# Altium integrated library Other Components.IntLib: 25 symbols
Pins are listed as number, name and electrical type; pins without a type are passive.

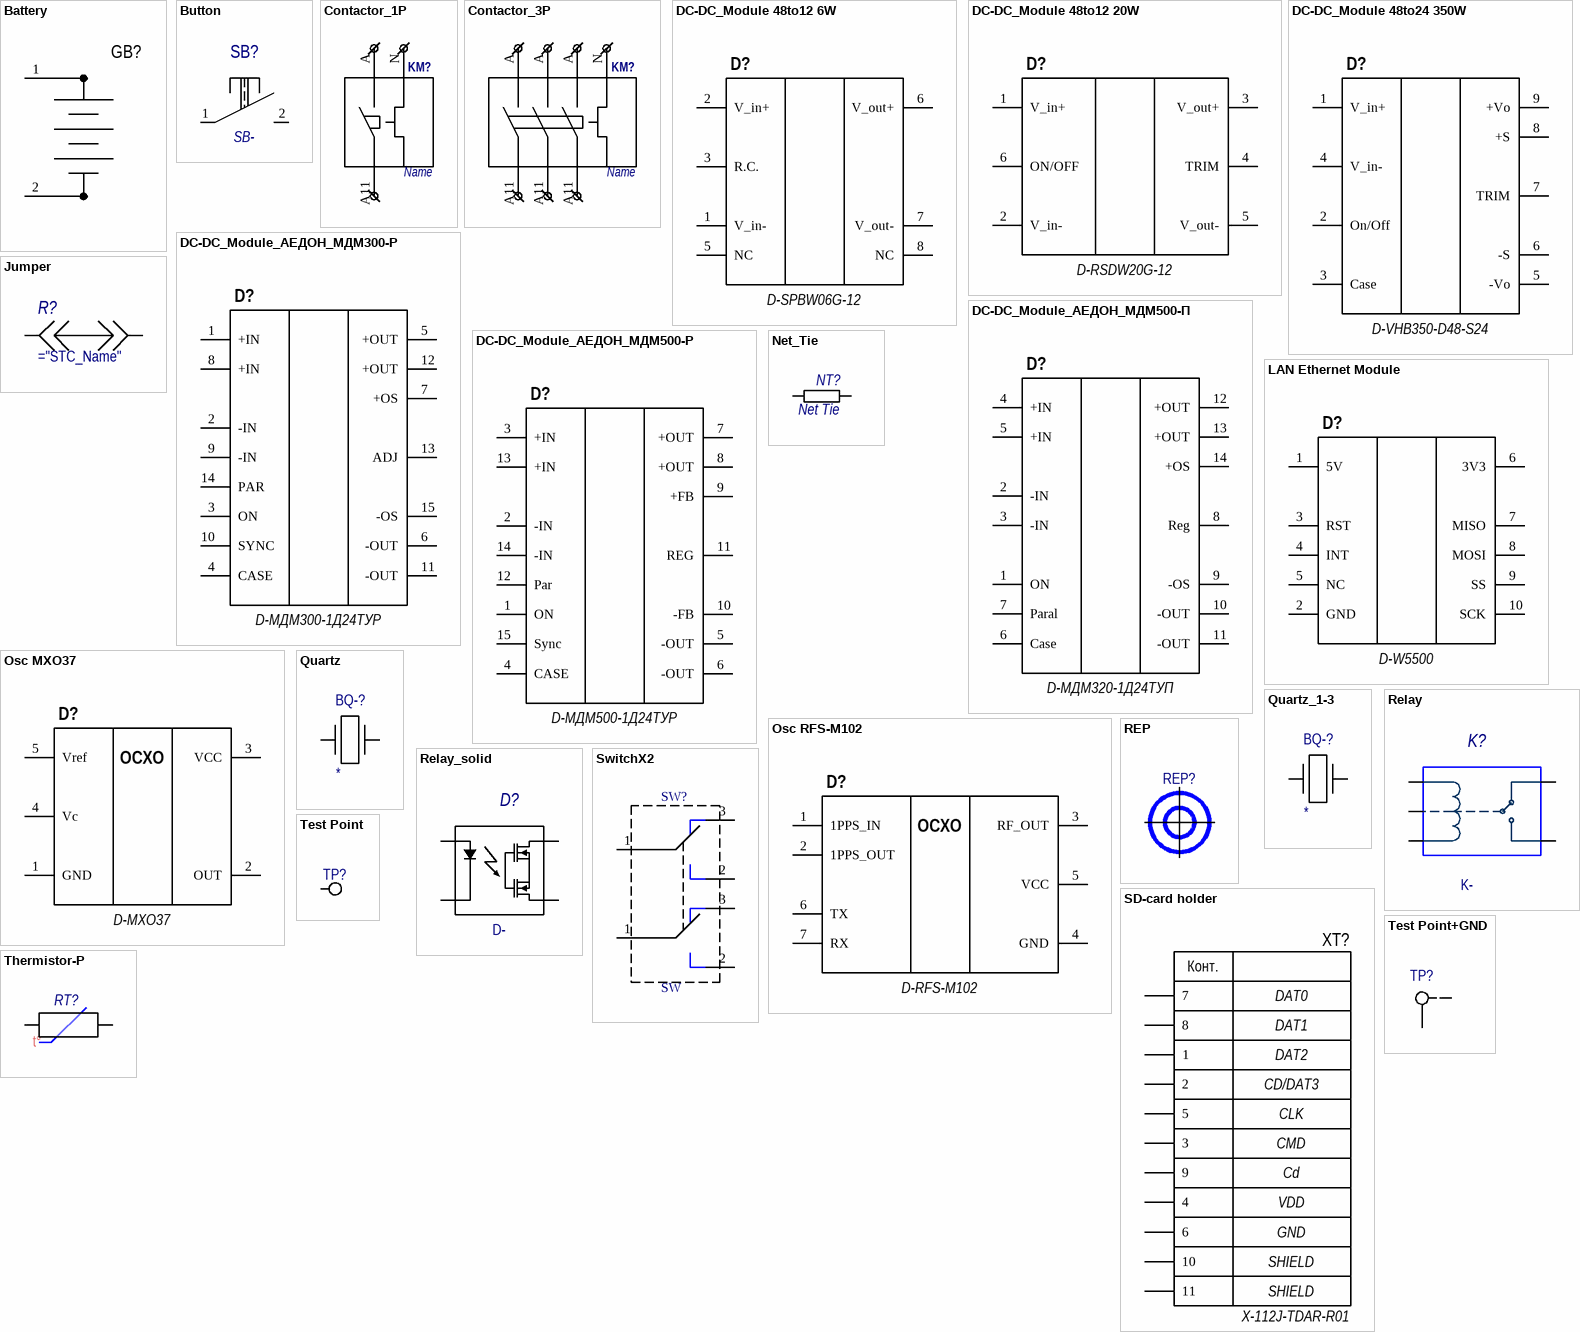
[diagram p0: symbols Battery to Thermistor-P]

## Battery
designator GB?
Mount_Type: Hand; STC_Type: Аккумулятор
footprint LP954760
footprint LP954760 no wires
pins: 1, 2

## Button
designator SB?, comment SB-
footprint KLS7-TS6604
footprint KLS7-TS6335
pins: 1, 2

## Contactor_1P
designator KM?, comment Name
pins: A, A11, N

## Contactor_3P
designator KM?, comment Name
pins: A, A, A, A11, A11, A11, N

## DC-DC_Module 48to12 6W
designator D?, comment D-SPBW06G-12
FullName: нет данных
footprint SPBW06G12
pins: 1 V_in-, 2 V_in+, 3 R.C., 5 NC, 6 V_out+, 7 V_out-, 8 NC

## DC-DC_Module 48to12 20W
designator D?, comment D-RSDW20G-12
FullName: нет данных
footprint RSDW20H12
footprint RSDW20G-12
pins: 1 V_in+, 2 V_in-, 3 V_out+, 4 TRIM, 5 V_out-, 6 ON/OFF

## DC-DC_Module 48to24 350W
designator D?, comment D-VHB350-D48-S24
FullName: нет данных
footprint VHB350-D48-S24
pins: 1 V_in+, 2 On/Off, 3 Case, 4 V_in-, 5 -Vo, 6 -S, 7 TRIM, 8 +S, 9 +Vo

## DC-DC_Module_АЕДОН_МДМ300-Р
designator D?, comment D-МДМ300-1Д24ТУР
FullName: нет данных
footprint MDM300_1UR (new.03.02.22)
pins: 1 +IN, 2 -IN, 3 ON, 4 CASE, 5 +OUT, 6 -OUT, 7 +OS, 8 +IN, 9 -IN, 10 SYNC, 11 -OUT, 12 +OUT, 13 ADJ, 14 PAR, 15 -OS

## DC-DC_Module_АЕДОН_МДМ500-П
designator D?, comment D-МДМ320-1Д24ТУП
FullName: нет данных
footprint MDM500_1UP
pins: 1 ON, 2 -IN, 3 -IN, 4 +IN, 5 +IN, 6 Case, 7 Paral, 8 Reg, 9 -OS, 10 -OUT, 11 -OUT, 12 +OUT, 13 +OUT, 14 +OS

## DC-DC_Module_АЕДОН_МДМ500-Р
designator D?, comment D-МДМ500-1Д24ТУР
FullName: нет данных
footprint MDM500_1UR (new.03.02.22)
pins: 1 ON, 2 -IN, 3 +IN, 4 CASE, 5 -OUT, 6 -OUT, 7 +OUT, 8 +OUT, 9 +FB, 10 -FB, 11 REG, 12 Par, 13 +IN, 14 -IN, 15 Sync

## Jumper
designator R?
Mount_Type: NM; STC_Type: Резистор; STC_Name: RCase-NM; Type: Перемычка; Case: Case
footprint Jumper_1206
footprint Jumper_0805
footprint Jumper_0805
footprint PLS-2
pins: 1, 2

## LAN Ethernet Module
designator D?, comment D-W5500
FullName: нет данных
footprint W5500
pins: 1 5V, 2 GND, 3 RST, 4 INT, 5 NC, 6 3V3, 7 MISO, 8 MOSI, 9 SS, 10 SCK

## Net_Tie
designator NT?, comment Net Tie  (net tie, no BOM)
footprint NT_04
pins: 1, 2

## Osc MXO37
designator D?, comment D-MXO37
Ultra Low power Ultra High Stability OCXO; STC_Name: нет данных
footprint MXO37R
pins: 1 GND, 2 OUT, 3 VCC, 4 Vc, 5 Vref
text: OCXO

## Osc RFS-M102
designator D?, comment D-RFS-M102
Rubidium Frequency Standard 10 MHz; STC_Name: нет данных
footprint RFS-M102
pins: 1 1PPS_IN, 2 1PPS_OUT, 3 RF_OUT, 4 GND, 5 VCC, 6 TX, 7 RX
text: OCXO

## Quartz
designator BQ-?
STC_Name: Q-*; Type: Q
footprint Quartz-49S
footprint Quartz-49SMT
pins: 1, 2

## Quartz_1-3
designator BQ-?
STC_Name: Q-*; Type: Q
footprint Quartz KX-9A/7T
pins: 1, 3

## Relay
designator K?, comment K-
Mount_Type: Hand; STC_Type: Реле; Type: Реле; STC_Name: K-
footprint Relay_SRD
pins: 1 "Затвор", 2 "Затвор", 3 "Затвор", 4 "Затвор", 5 "Затвор"

## Relay_solid
designator D?, comment D-
Type: Реле; Mount_Type: Hand; STC_Name: D-; STC_Type: Реле
footprint SOP-4
footprint SOP-4_CN
pins: 1 "Затвор", 2 "Затвор", 3 "Затвор", 4 "Затвор"

## REP
designator REP?  (value not drawn)  (no BOM)
footprint REP

## SD-card holder
designator XT?, comment X-112J-TDAR-R01  Parameter 11: SHIELD  Parameter 9: GND  Parameter 8: VDD  Parameter 7: Cd  Parameter 6: CLK  Parameter 5: CMD  Parameter 4: CD/DAT3  Parameter 3: DAT2  Parameter 2: DAT1  Parameter 1: DAT0
Mount_Type: Hand; STC_Type: Разъём; STC_Name: X-112J-TDAR-R01; Parameter 10: SHIELD
footprint 112JTDARR01
pins: 1, 2, 3, 4, 5, 6, 7, 8, 9, 10, 11
text: Конт.

## SwitchX2
designator SW?, comment SW
STC_Name: SW
pins: 1, 1, 2, 2, 3, 3

## Test Point
designator TP?, comment Testpoint  (value not drawn)
footprint REP
footprint Testpoint (Keystone 5011)
footprint TestPoint Pogo
footprint TestPoint SMD
footprint TestPoint Pogo +3D
pins: 0

## Test Point+GND
designator TP?, comment Testpoint  (value not drawn)
footprint UFL-TP (U.FL SMT connector (Hirose))
pins: 1, 2 GND

## Thermistor-P
designator RT?  Thermal: t°
Mount_Type: Hand; STC_Type: Резистор; Value: K; Type: Термистор
footprint PLS-2
pins: 1 PIN, 2 PIN